# EAGLE library part MAX98357AETE+T (library 2023-05-10_02-17-40_Library)
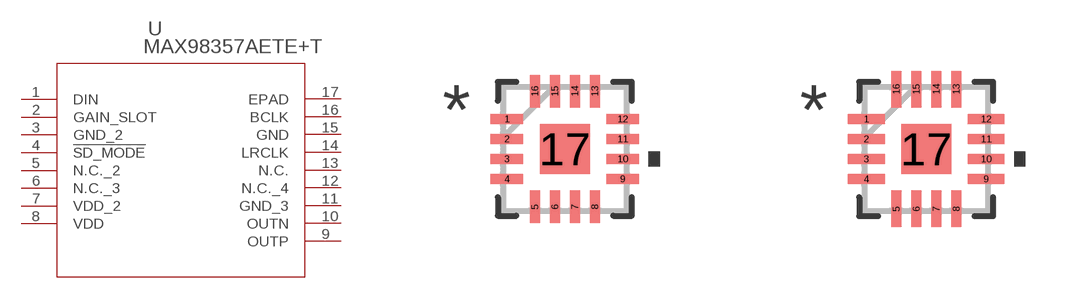
[diagram p0: symbol with the pads of 21-0136I_T1633-4_MXM; footprints 21-0136I_T1633-4_MXM, 21-0136I_T1633-4_MXM-M]

Designator prefix U

## MAX98357AETE+T21-0136I_T1633-4_MXM (Copyright: Copyright (C) 2023 Ultra Librarian. All rights reserved.; Manufacturer_Part_Number: MAX98357AETE+T; Mfr_Name: Analog Devices Inc)  [21-0136I_T1633-4_MXM]
1  DIN  pas
2  GAIN_SLOT  pas
3  GND_2  pas
4  !SD_MODE  pas
5  N.C._2  nc
6  N.C._3  nc
7  VDD_2  pwr
8  VDD  pwr
9  OUTP  out
10  OUTN  out
11  GND_3  pas
12  N.C._4  nc
13  N.C.  nc
14  LRCLK  pas
15  GND  pas
16  BCLK  pas
17  EPAD  pas

## MAX98357AETE+T21-0136I_T1633-4_MXM-M (Copyright: Copyright (C) 2023 Ultra Librarian. All rights reserved.; Manufacturer_Part_Number: MAX98357AETE+T; Mfr_Name: Analog Devices Inc)  [21-0136I_T1633-4_MXM-M]
Pads as for 21-0136I_T1633-4_MXM

## MAX98357AETE+T21-0136I_T1633-4_MXM-L (Copyright: Copyright (C) 2023 Ultra Librarian. All rights reserved.; Manufacturer_Part_Number: MAX98357AETE+T; Mfr_Name: Analog Devices Inc)  [21-0136I_T1633-4_MXM-L]
Pads as for 21-0136I_T1633-4_MXM

## Footprint 21-0136I_T1633-4_MXM (pad centres in mm)
smd 0.813 x 0.254: 1 -1.448,0.75; 2 -1.448,0.25; 3 -1.448,-0.25; 4 -1.448,-0.75; 9 1.448,-0.75; 10 1.448,-0.25; 11 1.448,0.25; 12 1.448,0.75
smd 0.254 x 0.813: 5 -0.75,-1.448; 6 -0.25,-1.448; 7 0.25,-1.448; 8 0.75,-1.448; 13 0.75,1.448; 14 0.25,1.448; 15 -0.25,1.448; 16 -0.75,1.448
smd 1.245 x 1.245: 17 0,0

## Footprint 21-0136I_T1633-4_MXM-M (pad centres in mm)
smd 0.914 x 0.254: 1 -1.499,0.75; 2 -1.499,0.25; 3 -1.499,-0.25; 4 -1.499,-0.75; 9 1.499,-0.75; 10 1.499,-0.25; 11 1.499,0.25; 12 1.499,0.75
smd 0.254 x 0.914: 5 -0.75,-1.499; 6 -0.25,-1.499; 7 0.25,-1.499; 8 0.75,-1.499; 13 0.75,1.499; 14 0.25,1.499; 15 -0.25,1.499; 16 -0.75,1.499
smd 1.245 x 1.245: 17 0,0

## Footprint 21-0136I_T1633-4_MXM-L (pad centres in mm)
smd 0.711 x 0.254: 1 -1.397,0.75; 2 -1.397,0.25; 3 -1.397,-0.25; 4 -1.397,-0.75; 9 1.397,-0.75; 10 1.397,-0.25; 11 1.397,0.25; 12 1.397,0.75
smd 0.254 x 0.711: 5 -0.75,-1.397; 6 -0.25,-1.397; 7 0.25,-1.397; 8 0.75,-1.397; 13 0.75,1.397; 14 0.25,1.397; 15 -0.25,1.397; 16 -0.75,1.397
smd 1.245 x 1.245: 17 0,0